# Altium footprint library DIP28.PcbLib: 1 footprints
Each footprint in its own frame and in the unit in brackets; x right, y up, seen from the top. Pads: shape width x height; smd on the part's side, far side on the other; paste and mask are expansions set on the pad; w line width, h text height; cw(c..) or ccw(c..) is an arc to the next point about the centre after c.
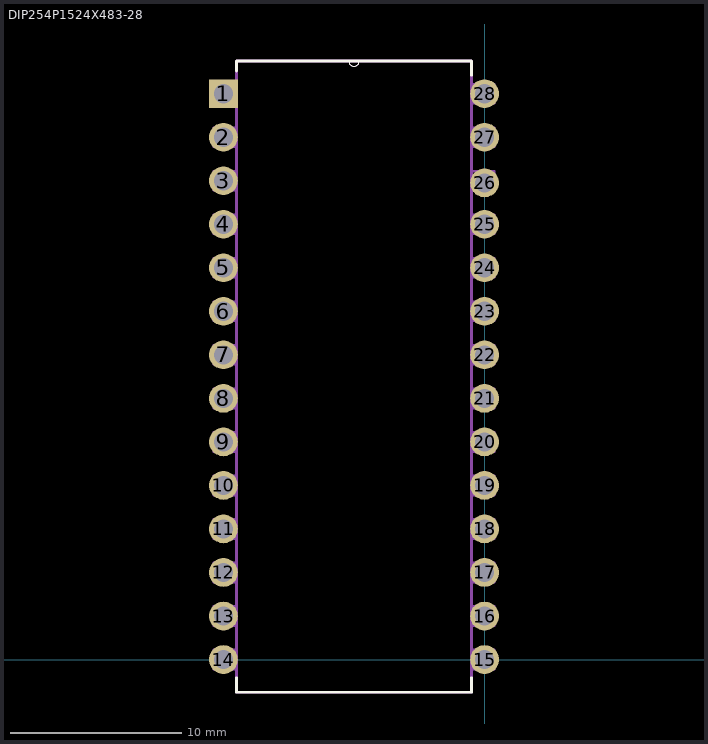
[diagram p0: the footprint, top view; thin cyan lines are the x and y axes]

## DIP254P1524X483-28 [mil]
pads (28):
  rect 66x66 hole 44: 1(-600,1300)
  round 66 hole 44: 2(-600,1200) 3(-600,1100) 4(-600,1000) 5(-600,900) 6(-600,800) 7(-600,700) 8(-600,600) 9(-600,500) 10(-600,400) 11(-600,300) 12(-600,200) 13(-600,100) 14(-600,0) 15(0,0) 16(0,100) 17(0,200) 18(0,300) 19(0,400) 20(0,500) 21(0,600) 22(0,700) 23(0,800) 24(0,900) 25(0,1000) 26(0,1095) 27(0,1200) 28(0,1300)
Top Overlay:
  lines w0: -312,1375 ccw(c-300,1375) -288,1375
  lines w6: -570,-42 -570,-75 -30,-75 -30,-42 ; -570,1352 -570,1375 -312,1375 -288,1375 -30,1375 -30,1342
Mechanical 13:
  lines w0: -312,1375 ccw(c-300,1375) -288,1375
  lines w6: -622,-22 -622,22 -570,22 -570,-22 -622,-22 ; -622,78 -622,122 -570,122 -570,78 -622,78 ; -622,178 -622,222 -570,222 -570,178 -622,178 ; -622,278 -622,322 -570,322 -570,278 -622,278 ; -622,378 -622,422 -570,422 -570,378 -622,378 ; -622,478 -622,522 -570,522 -570,478 -622,478 ; -622,578 -622,622 -570,622 -570,578 -622,578 ; -622,678 -622,722 -570,722 -570,678 -622,678 ; -622,778 -622,822 -570,822 -570,778 -622,778 ; -622,878 -622,922 -570,922 -570,878 -622,878 ; -622,978 -622,1022 -570,1022 -570,978 -622,978 ; -622,1078 -622,1122 -570,1122 -570,1078 -622,1078 ; -622,1178 -622,1222 -570,1222 -570,1178 -622,1178 ; -622,1278 -622,1322 -570,1322 -570,1278 -622,1278 ; -570,-75 -30,-75 -30,1375 -288,1375 -312,1375 -570,1375 -570,-75 ; -30,-22 -30,22 22,22 22,-22 -30,-22 ; -30,78 -30,122 22,122 22,78 -30,78 ; -30,178 -30,222 22,222 22,178 -30,178 ; -30,278 -30,322 22,322 22,278 -30,278 ; -30,378 -30,422 22,422 22,378 -30,378 ; -30,478 -30,522 22,522 22,478 -30,478 ; -30,578 -30,622 22,622 22,578 -30,578 ; -30,678 -30,722 22,722 22,678 -30,678 ; -30,778 -30,822 22,822 22,778 -30,778 ; -30,878 -30,922 22,922 22,878 -30,878 ; -30,978 -30,1022 22,1022 22,978 -30,978 ; -30,1078 -30,1122 22,1122 22,1078 -30,1078 ; -30,1178 -30,1222 22,1222 22,1178 -30,1178 ; -30,1278 -30,1322 22,1322 22,1278 -30,1278
3D body "ADC0808CCN--3DModel-STEP-56544.STEP": height 200, standoff -125.2, extent -599.92,-59.96 9.92,1369.96